# Altium footprint library ESP32S3_supermini.PcbLib: 1 footprints
Each footprint in its own frame and in the unit in brackets; x right, y up, seen from the top. Pads: shape width x height; smd on the part's side, far side on the other; paste and mask are expansions set on the pad; w line width, h text height; cw(c..) or ccw(c..) is an arc to the next point about the centre after c.
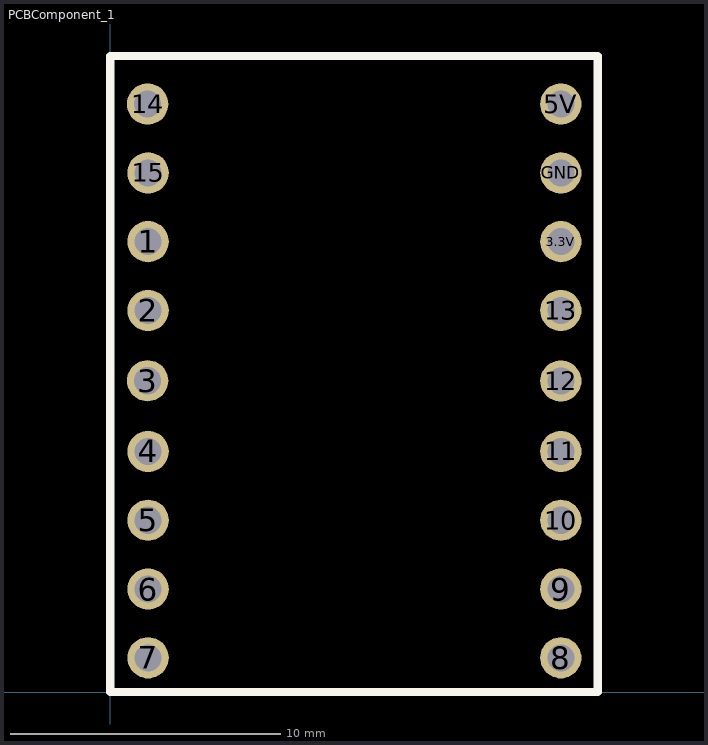
[diagram p0: the footprint, top view; thin cyan lines are the x and y axes]

## PCBComponent_1 [mil]
pads (18):
  round 60 hole 39.37: 1(55,655) 2(55,555) 3(54.33,452.83) 3.3V(655,655) 4(55,350) 5(55,250) 5V(655,855) 6(55,150) 7(55,50) 8(655,50) 9(655,150) 10(655,250) 11(655,350) 12(655,452.5) 13(655,555) 14(54.33,855) 15(55,755) GND(655,755)
Top Overlay:
  lines w11.81: 0,0 0,925.2 708.66,925.2 708.66,0 0,0
Multi-Layer:
  text "type C" at 190,834.99 h60
  text "SuperMini" at 110,299.99 h60
  text "ESP32_S3" at 125,415 h60